# Altium schematic symbol library 2ED2110S06M.SchLib: 1 symbol
Pins are listed as number, name and electrical type; pins without a type are passive.

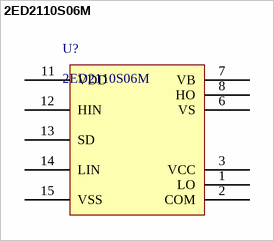
[diagram p0: symbol 2ED2110S06M]

## 2ED2110S06M
designator U?
650 V high-side and low-side gate driver with integrated bootstrap diode; Manufacturer: Infineon; Manufacturer Part Number: 2ED2110S06MXUMA1; Supplier 1: Digi-Key; RoHS: Yes; Pricing 1: 1000=4.53414 (USD); Supplier Part Number 1: 2220Y1000471FCT-ND
footprint RW-16_N (16-Pin Wide Body Small Outline Integrated Circuit 1.27 mm Pitch, IPC Medium Density)
pins: 1 LO, 2 COM, 3 VCC, 6 VS, 7 VB, 8 HO, 11 VDD, 12 HIN, 13 SD, 14 LIN, 15 VSS